# Altium schematic symbol library SYM-Connector.SchLib: 117 symbols (part 3 of 4)
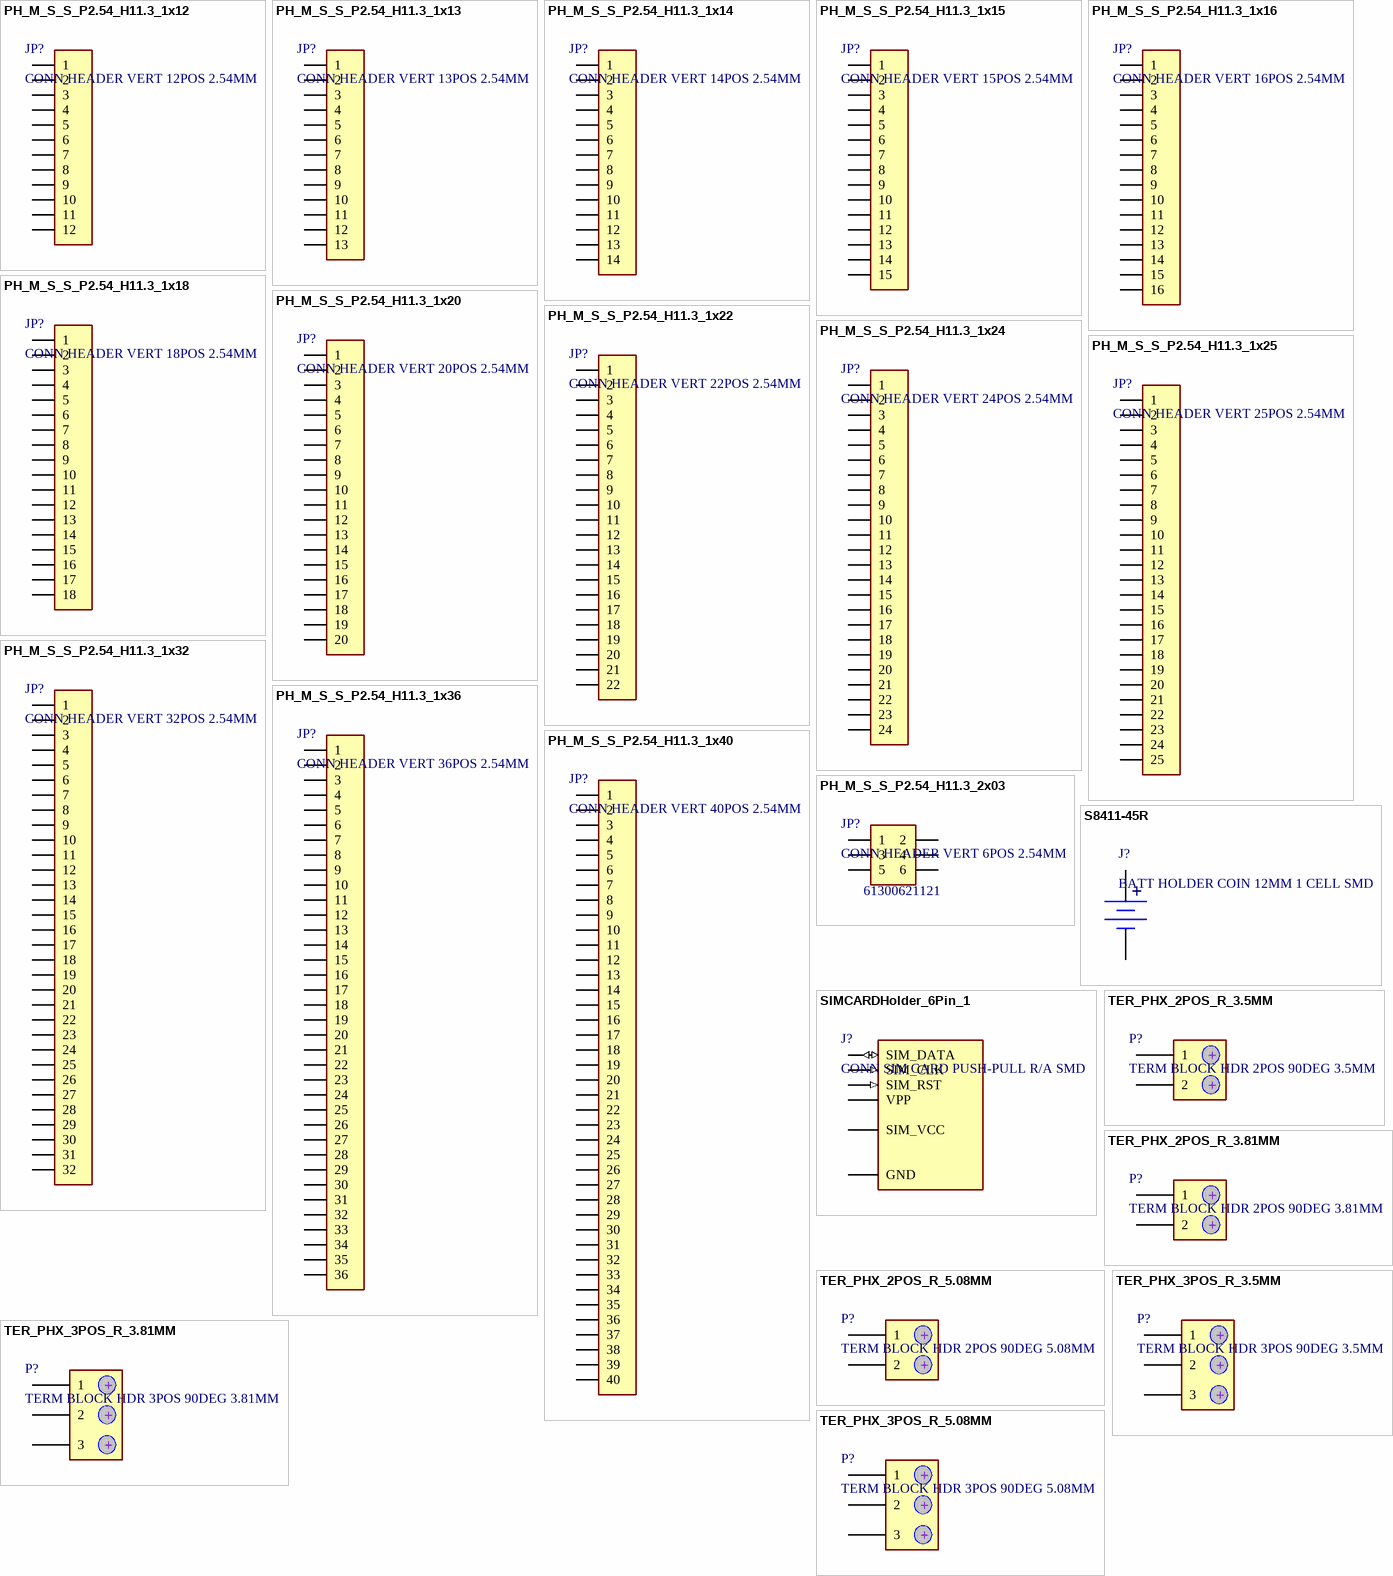
[diagram p6: symbols PH_M_S_S_P2.54_H11.3_1x12 to TER_PHX_3POS_R_5.08MM]

## TER_PHX_2POS_R_5.08MM
designator P?, comment TERM BLOCK HDR 2POS 90DEG 5.08MM
Conn Shrouded Header HDR 2 POS 5.08mm Solder RA Thru-Hole; Manufacturer: Phoenix Contact; Manufacturer Part Number: MSTB2.5/2-G-5.08; Max Current Rating: 12A; Gender: Male; Supplier 1: Digi-Key; RoHS: Yes; Category: Terminal Blocks; Stock 1: 401; Pricing 1: 1=0/67000, 10=0/64400, 50=0/61600, 100=0/59920, 250=0/56000, 500=0/51520, 1000=0/47600, 2500=0/45360, 5000=0/43120 (USD); Housing Color: Green; Housing Material: Polybutylene; Contact Plating: Tin; Orientation: Right Angle; Termination: Solder; Number of Rows: 1; Length: 10.16mm; Pitch: 5.08mm; Depth: 12mm; ComponentLink1URL: http://components.arrow.com/part/dataview/0323_01938059?src-supplier=Arrow+Europe; ComponentLink1Description: http://components.arrow.com/part/dataview/0323_01938059?src-supplier=Arrow+Europe; Supplier Part Number 1: 277-1095-ND
footprint TER-Phoenix-R-02
pins: 1, 2
text: +

## TER_PHX_3POS_R_3.5MM
designator P?, comment TERM BLOCK HDR 3POS 90DEG 3.5MM
Pluggable Terminal Blocks 3 Pos 3.5mm pitch Th rough Hole Header; Manufacturer: Phoenix Contact; Manufacturer Part Number: 1844223; Current Rating: 8A; Voltage Rating: 160V; Number of Positions: 3; Number of Levels: 1; Voltage: 300V; Gender: Male; Voltage Rating (DC): 250V; Connector Type: Plug; Approvals: UL,CSA; Supplier: Digi-Key; Supplier Part Number: 277-2415-ND; RoHS: Yes; Category: Terminal Blocks; Stock: 9881; Pricing: 1=1.70000, 10=1.49500, 50=1.43000, 100=1.39100, 250=1.30000, 500=1.19600, 1000=1.10500, 2500=1.05300, 5000=0.98800 (USD); Mounting Technology: Through Hole; Contact Plating: Tin; Weight: 4oz; Color: Green; Housing Color: Green; Material: PBT; Housing Material: Polybutylene; Contact Material: Tin; Package Quantity: 50; Max Current Rating: 8A; Packaging: Bulk; Number of Rows: 1; Termination: Solder; Number of Positions Per Level: 3; Current: 8A; Number of Contacts: 3; Orientation: Right Angle; Series: MC; Number of Poles: 3; Length: 11.9mm; Width: 9.2mm; Height: 10.65mm; Pitch: 3.5mm; Depth: 9.2mm; Lead Free: Lead Free; Flammability Rating: UL94 V-0; RoHS Compliant: Yes; ComponentLink1URL: https://datasheet.ciiva.com/16097/1844223-16097202.pdf?src-supplier=Onlinecomponents.com; ComponentLink1Description: https://datasheet.ciiva.com/16097/1844223-16097202.pdf?src-supplier=Onlinecomponents.com; ComponentLink2URL: https://datasheet.ciiva.com/15197/getdatasheetpartid-211520-15197573.pdf?src-supplier=Verical; ComponentLink2Description: https://datasheet.ciiva.com/15197/getdatasheetpartid-211520-15197573.pdf?src-supplier=Verical; ComponentLink3URL: https://datasheet.ciiva.com/796/1844223-796692.pdf?src-supplier=Digi-Key; ComponentLink3Description: https://datasheet.ciiva.com/796/1844223-796692.pdf?src-supplier=Digi-Key; ComponentLink4URL: https://datasheet.ciiva.com/29211/740389-da-01-de-leiterplattenstecker-mc-1-5-3-g-3-5-29211988.pdf?src-supplier=Conrad; ComponentLink4Description: https://datasheet.ciiva.com/29211/740389-da-01-de-leiterplattenstecker-mc-1-5-3-g-3-5-29211988.pdf?src-supplier=Conrad
footprint TER-Phoenix-3.5mm-R-03
pins: 1, 2, 3
text: +

## TER_PHX_3POS_R_3.81MM
designator P?, comment TERM BLOCK HDR 3POS 90DEG 3.81MM
Pluggable Terminal Blocks BCH-381H- 3 GN 3.81 MM HEADER; Manufacturer: Phoenix Contact; Manufacturer Part Number: 5444275; Current Rating: 8A; Voltage Rating: 160V; Number of Positions: 3; Number of Levels: 1; Voltage: 300V; Pitch: 0.15inch; Supplier: Digi-Key; Supplier Part Number: 277-11314-ND; RoHS: Yes; Category: Terminal Blocks; Pricing: 1=1.54000, 10=1.29800, 50=1.26260, 100=1.18000, 250=1.08560, 500=1.00300, 1000=0.95581, 2500=0.89680, 5000=0.88350 (USD); Mounting Technology: Through Hole; Contact Plating: Tin; Color: Green; Housing Material: Polyamide; Package Quantity: 100; Termination: Solder; Packaging: Bulk; Number of Positions Per Level: 3; Current: 8A; Length: 9.2mm; Flammability Rating: UL94 V-0; RoHS Compliant: Yes; ComponentLink1URL: http://media.digikey.com/pdf/Data%20Sheets/Phoenix%20Contact%20PDFs/5444275.pdf?src-supplier=Digi-Key; ComponentLink1Description: http://media.digikey.com/pdf/Data%20Sheets/Phoenix%20Contact%20PDFs/5444275.pdf?src-supplier=Digi-Key; ComponentLink2URL: https://media.digikey.com/pdf/Data%20Sheets/Phoenix%20Contact%20PDFs/5444275.pdf?src-supplier=Digi-Key; ComponentLink2Description: https://media.digikey.com/pdf/Data%20Sheets/Phoenix%20Contact%20PDFs/5444275.pdf?src-supplier=Digi-Key
footprint TER-Phoenix-3.81mm-R-03
pins: 1, 2, 3
text: +

## TER_PHX_3POS_R_5.08MM
designator P?, comment TERM BLOCK HDR 3POS 90DEG 5.08MM
3 Position Terminal Block Header 2 Side Shrouded Right Angle 5.08mm Through Hole; Manufacturer: Phoenix Contact; Manufacturer Part Number: 1759020; Max Current Rating: 12A; Voltage Rating: 250V; Number of Poles: 3; Number of Levels: 1; Current: 15A; Voltage: 300V; Voltage Rating (DC): 320V; Pin Diameter: 1mm; Approvals: UL,CSA,VDE,EN; Supplier 1: Digi-Key; RoHS: Yes; Category: Terminal Blocks; Stock 1: 1808; Pricing 1: 1=1/08000, 10=1/03500, 50=0/99000, 100=0/96300, 250=0/90000, 500=0/82800, 1000=0/76500, 2500=0/72900, 5000=0/69300 (USD); Mount: Through Hole; Color: Grey,Green; Contact Plating: Tin; Weight: 5.361642oz; Housing Color: Green; Housing Material: Polybutylene; Contact Material: Copper; Current Rating: 12A; Package Quantity: 50; Packaging: Bulk; Number of Rows: 1; Number of Positions: 3; Termination: Solder; Number of Positions Per Level: 3; Number of Contacts: 3; Orientation: Right Angle; Series: MSTB; Length: 15.24mm; Width: 15.24mm; Height: 12.1mm; Pitch: 5.08mm; Depth: 12mm; RoHS Compliant: Yes; Lead Free: Lead Free; Flammability Rating: UL94 V-0; ComponentLink1URL: https://datasheet.ciiva.com/16096/1759020-16096520.pdf?src-supplier=Onlinecomponents.com; ComponentLink1Description: https://datasheet.ciiva.com/16096/1759020-16096520.pdf?src-supplier=Onlinecomponents.com; ComponentLink2URL: https://datasheet.ciiva.com/15197/getdatasheetpartid-323138-15197355.pdf?src-supplier=Verical; ComponentLink2Description: https://datasheet.ciiva.com/15197/getdatasheetpartid-323138-15197355.pdf?src-supplier=Verical; ComponentLink3URL: https://datasheet.ciiva.com/11746/0900766b800b6dad-11746922.pdf?src-supplier=RSComponents; ComponentLink3Description: https://datasheet.ciiva.com/11746/0900766b800b6dad-11746922.pdf?src-supplier=RSComponents; ComponentLink4URL: https://datasheet.ciiva.com/795/1759020-795418.pdf?src-supplier=Digi-Key; ComponentLink4Description: https://datasheet.ciiva.com/795/1759020-795418.pdf?src-supplier=Digi-Key; ComponentLink5URL: https://datasheet.ciiva.com/29212/743629-da-01-de-grundgehaeuse-mstb-2-5-3-g-5-08-29212194.pdf?src-supplier=Conrad; ComponentLink5Description: https://datasheet.ciiva.com/29212/743629-da-01-de-grundgehaeuse-mstb-2-5-3-g-5-08-29212194.pdf?src-supplier=Conrad; Supplier Part Number 1: 277-1096-ND
footprint TER-Phoenix-R-03
pins: 1, 2, 3
text: +

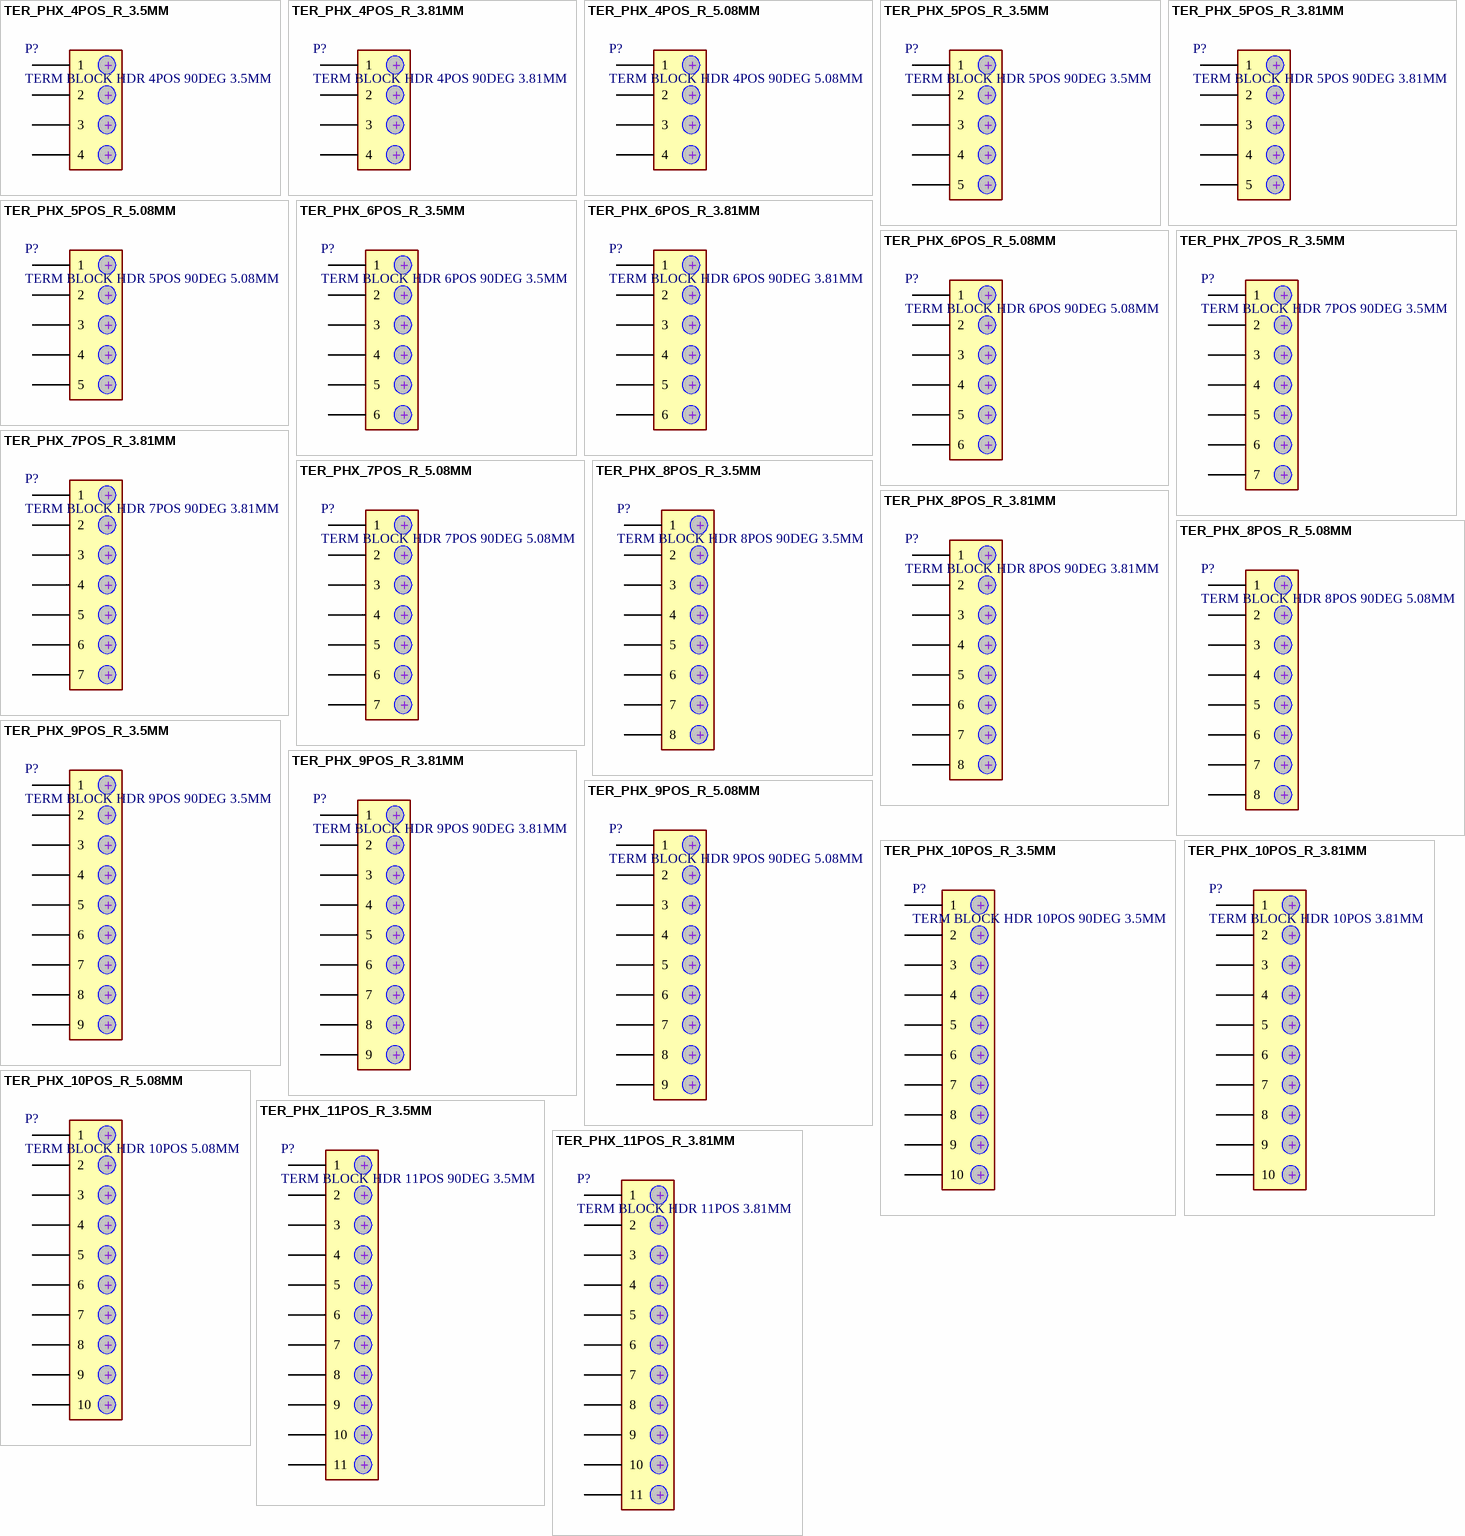
[diagram p3: symbols TER_PHX_4POS_R_3.5MM to TER_PHX_11POS_R_3.81MM]

## TER_PHX_4POS_R_3.5MM
designator P?, comment TERM BLOCK HDR 4POS 90DEG 3.5MM
Pluggable Terminal Blocks 4 Pos 3.5mm pitch Th rough Hole Header; Manufacturer: Phoenix Contact; Manufacturer Part Number: 1844236; Current Rating: 8A; Voltage Rating: 160V; Number of Poles: 4; Number of Levels: 1; Voltage: 300V; Gender: Male; Voltage Rating (DC): 640mV; Connector Type: Plug; Approvals: UL,CSA; Supplier: Digi-Key; Supplier Part Number: 277-2419-ND; RoHS: Yes; Category: Terminal Blocks; Stock: 4114; Pricing: 1=2.25000, 10=1.97800, 50=1.89200, 100=1.84040, 250=1.72000, 500=1.58240, 1000=1.46200, 2500=1.39320, 5000=1.30720 (USD); Mounting Technology: Through Hole; Contact Plating: Tin; Weight: 4oz; Color: Green; Housing Color: Green; Material: PBT; Housing Material: Polybutylene; Contact Material: Tin; Package Quantity: 50; Max Current Rating: 8A; Number of Rows: 1; Packaging: Bulk; Number of Positions: 4; Termination: Solder; Number of Positions Per Level: 4; Current: 8A; Number of Contacts: 4; Orientation: Right Angle; Series: MC; Length: 15.4mm; Width: 9.2mm; Height: 10.65mm; Pitch: 3.5mm; Depth: 7.25mm; Lead Free: Lead Free; Flammability Rating: UL94 V-0; RoHS Compliant: Yes; ComponentLink1URL: https://datasheet.ciiva.com/16097/1844236-16097205.pdf?src-supplier=Onlinecomponents.com; ComponentLink1Description: https://datasheet.ciiva.com/16097/1844236-16097205.pdf?src-supplier=Onlinecomponents.com; ComponentLink2URL: https://datasheet.ciiva.com/15197/getdatasheetpartid-176360-15197574.pdf?src-supplier=Verical; ComponentLink2Description: https://datasheet.ciiva.com/15197/getdatasheetpartid-176360-15197574.pdf?src-supplier=Verical; ComponentLink3URL: https://datasheet.ciiva.com/796/1844236-796711.pdf?src-supplier=Digi-Key; ComponentLink3Description: https://datasheet.ciiva.com/796/1844236-796711.pdf?src-supplier=Digi-Key; ComponentLink4URL: https://datasheet.ciiva.com/29211/740407-da-01-de-leiterplattenstecker-mc1-5-4-g-3-5-29211995.pdf?src-supplier=Conrad; ComponentLink4Description: https://datasheet.ciiva.com/29211/740407-da-01-de-leiterplattenstecker-mc1-5-4-g-3-5-29211995.pdf?src-supplier=Conrad
footprint TER-Phoenix-3.5mm-R-04
pins: 1, 2, 3, 4
text: +

## TER_PHX_4POS_R_3.81MM
designator P?, comment TERM BLOCK HDR 4POS 90DEG 3.81MM
Pluggable Terminal Blocks BCH-381H- 4 GN 3.81 MM HEADER; Manufacturer: Phoenix Contact; Manufacturer Part Number: 5444288; Max Current Rating: 8A; Voltage Rating: 160V; Number of Positions: 4; Number of Levels: 1; Voltage: 300V; Supplier: Digi-Key; Supplier Part Number: 277-11315-ND; RoHS: Yes; Category: Terminal Blocks; Pricing: 1=2.07000, 10=1.73800, 50=1.69060, 100=1.58000, 250=1.45360, 500=1.34300, 1000=1.27980, 2500=1.20080, 5000=1.18275 (USD); Mounting Technology: Through Hole; Color: Green; Contact Plating: Tin; Housing Material: Polyamide; Package Quantity: 100; Current Rating: 8A; Termination: Solder; Packaging: Bulk; Number of Positions Per Level: 4; Number of Contacts: 4; Orientation: Right Angle; Current: 8A; Length: 9.2mm; Pitch: 3.81mm; Flammability Rating: UL94 V-0; RoHS Compliant: Yes; ComponentLink1URL: https://datasheet.ciiva.com/24428/itemdetail-5444288-24428938.pdf?src-supplier=Onlinecomponents.com; ComponentLink1Description: https://datasheet.ciiva.com/24428/itemdetail-5444288-24428938.pdf?src-supplier=Onlinecomponents.com
footprint TER-Phoenix-3.81mm-R-04
pins: 1, 2, 3, 4
text: +

## TER_PHX_4POS_R_5.08MM
designator P?, comment TERM BLOCK HDR 4POS 90DEG 5.08MM
Pluggable Terminal Blocks 4 Pos 5.08mm pitch T hrough Hole Header; Manufacturer: Phoenix Contact; Manufacturer Part Number: 1759033; Max Current Rating: 12A; Number of Poles: 4; Voltage Rating: 250V; Number of Levels: 1; Current: 15A; Voltage: 300V; Voltage Rating (DC): 320V; Pin Diameter: 1mm; Approvals: UL,CSA,VDE,EN; Supplier 1: Digi-Key; RoHS: Yes; Category: Terminal Blocks; Stock 1: 1638; Pricing 1: 1=1/56000, 10=1/49500, 50=1/43000, 100=1/39100, 250=1/30000, 500=1/19600, 1000=1/10500, 2500=1/05300, 5000=1/00100 (USD); Mount: Through Hole; Color: Green,Grey; Contact Plating: Tin; Weight: 5.361642oz; Contact Material: Tin,Copper; Housing Color: Green; Housing Material: Polybutylene; Package Quantity: 50; Packaging: Bulk; Number of Rows: 1; Current Rating: 12A; Number of Positions Per Level: 4; Termination: Solder; Number of Positions: 4; Number of Contacts: 4; Orientation: Right Angle; Series: MSTB; Length: 20.32mm; Width: 20.32mm; Height: 12.1mm; Pitch: 5.08mm; Depth: 12mm; Lead Free: Lead Free; Flammability Rating: UL94 V-0; RoHS Compliant: Yes; ComponentLink1URL: https://datasheet.ciiva.com/16096/1759033-16096522.pdf?src-supplier=Onlinecomponents.com; ComponentLink1Description: https://datasheet.ciiva.com/16096/1759033-16096522.pdf?src-supplier=Onlinecomponents.com; ComponentLink2URL: https://datasheet.ciiva.com/15216/getdatasheetpartid-198286-15216429.pdf?src-supplier=Verical; ComponentLink2Description: https://datasheet.ciiva.com/15216/getdatasheetpartid-198286-15216429.pdf?src-supplier=Verical; ComponentLink3URL: https://datasheet.ciiva.com/796/1759033-796689.pdf?src-supplier=Digi-Key; ComponentLink3Description: https://datasheet.ciiva.com/796/1759033-796689.pdf?src-supplier=Digi-Key; ComponentLink4URL: https://datasheet.ciiva.com/29212/743643-da-01-de-grundgehaeuse-mstb-2-5-4-g-5-08-29212200.pdf?src-supplier=Conrad; ComponentLink4Description: https://datasheet.ciiva.com/29212/743643-da-01-de-grundgehaeuse-mstb-2-5-4-g-5-08-29212200.pdf?src-supplier=Conrad; ComponentLink5URL: https://datasheet.ciiva.com/16939/70054620-16939382.pdf?src-supplier=Allied+Electronics; ComponentLink5Description: https://datasheet.ciiva.com/16939/70054620-16939382.pdf?src-supplier=Allied+Electronics; Supplier Part Number 1: 277-1097-ND
footprint TER-Phoenix-R-04
pins: 1, 2, 3, 4
text: +

## TER_PHX_5POS_R_3.5MM
designator P?, comment TERM BLOCK HDR 5POS 90DEG 3.5MM
Conn Shrouded Header (4 Sides) HDR 5 POS 3.5mm Solder RA Side Entry Thru-Hole Cardboard; Manufacturer: Phoenix Contact; Manufacturer Part Number: 1844249; Number of Poles: 5; Max Current Rating: 8A; Voltage Rating: 160V; Number of Levels: 1; Voltage: 300V; Gender: Male; Voltage Rating (DC): 640mV; Connector Type: Plug; Approvals: UL,CSA; Supplier: Digi-Key; Supplier Part Number: 277-5789-ND; RoHS: Yes; Category: Terminal Blocks; Pricing: 1=2.81000, 10=2.47300, 50=2.36500, 100=2.30050, 250=2.15000, 500=1.97802, 1000=1.82750, 2500=1.74150, 5000=1.63401 (USD); Mounting Technology: Through Hole; Color: Green; Contact Plating: Tin; Weight: 4oz; Housing Color: Green; Material: PBT; Housing Material: Polybutylene; Contact Material: Tin; Packaging: Bulk; Number of Rows: 1; Current Rating: 8A; Package Quantity: 50; Number of Positions Per Level: 5; Termination: Solder; Current: 8A; Number of Positions: 5; Number of Contacts: 5; Orientation: Right Angle; Series: MC; Length: 18.9mm; Width: 9.2mm; Height: 10.65mm; Pitch: 3.5mm; Depth: 9.2mm; Lead Free: Lead Free; Flammability Rating: UL94 V-0; RoHS Compliant: Yes; ComponentLink1URL: https://datasheet.ciiva.com/16097/1844249-16097207.pdf?src-supplier=Onlinecomponents.com; ComponentLink1Description: https://datasheet.ciiva.com/16097/1844249-16097207.pdf?src-supplier=Onlinecomponents.com; ComponentLink2URL: https://datasheet.ciiva.com/15216/getdatasheetpartid-176383-15216455.pdf?src-supplier=Verical; ComponentLink2Description: https://datasheet.ciiva.com/15216/getdatasheetpartid-176383-15216455.pdf?src-supplier=Verical; ComponentLink3URL: https://datasheet.ciiva.com/29211/740424-da-01-de-leiterplattenstecker-mc-1-5-5-g-3-5-29211998.pdf?src-supplier=Conrad; ComponentLink3Description: https://datasheet.ciiva.com/29211/740424-da-01-de-leiterplattenstecker-mc-1-5-5-g-3-5-29211998.pdf?src-supplier=Conrad
footprint TER-Phoenix-3.5mm-R-05
pins: 1, 2, 3, 4, 5
text: +

## TER_PHX_5POS_R_3.81MM
designator P?, comment TERM BLOCK HDR 5POS 90DEG 3.81MM
Pluggable Terminal Blocks BCH-381H- 5 GN 3.81 MM HEADER; Manufacturer: Phoenix Contact; Manufacturer Part Number: 5444291; Current Rating: 8A; Voltage Rating: 160V; Number of Positions: 5; Number of Levels: 1; Voltage: 300V; Pitch: 0.15inch; Supplier: Digi-Key; Supplier Part Number: 277-11316-ND; RoHS: Yes; Category: Terminal Blocks; Stock: 240; Pricing: 1=2.51000, 10=2.11200, 50=2.05440, 100=1.92000, 250=1.76644, 500=1.63200, 1000=1.55521, 2500=1.45920, 5000=1.43925 (USD); Mounting Technology: Through Hole; Contact Plating: Tin; Color: Green; Housing Material: Polyamide; Package Quantity: 100; Termination: Solder; Packaging: Bulk; Number of Positions Per Level: 5; Current: 8A; Length: 9.2mm; Flammability Rating: UL94 V-0; RoHS Compliant: Yes; ComponentLink1URL: https://datasheet.ciiva.com/29682/5444291-29682326.pdf?src-supplier=Digi-Key; ComponentLink1Description: https://datasheet.ciiva.com/29682/5444291-29682326.pdf?src-supplier=Digi-Key
footprint TER-Phoenix-3.81mm-R-05
pins: 1, 2, 3, 4, 5
text: +

## TER_PHX_5POS_R_5.08MM
designator P?, comment TERM BLOCK HDR 5POS 90DEG 5.08MM
Conn Shrouded Header HDR 5 POS 5.08mm Solder RA Thru-Hole; Manufacturer: Phoenix Contact; Manufacturer Part Number: MSTB2.5/5-G-5.08; Max Current Rating: 12A; Gender: Male; Supplier 1: Digi-Key; RoHS: Yes; Category: Uncategorized; Pricing 1: 1=1/96000, 10=1/87500, 50=1/79300, 100=1/74410, 250=1/63000, 500=1/49960, 1000=1/38550, 2500=1/32030, 5000=1/25510 (USD); Contact Plating: Tin; Housing Material: Polybutylene; Housing Color: Green; Number of Rows: 1; Termination: Solder; Orientation: Right Angle; Length: 25.4mm; Pitch: 5.08mm; Depth: 12mm; Supplier Part Number 1: 277-1098-ND
footprint TER-Phoenix-R-05
pins: 1, 2, 3, 4, 5
text: +

## TER_PHX_6POS_R_3.5MM
designator P?, comment TERM BLOCK HDR 6POS 90DEG 3.5MM
Header; 8 A; 160 V; 3.5; 6; Soldering; 1.2 mm; 2.5 kV; 160/250 V; PBT; Manufacturer: Phoenix Contact; Manufacturer Part Number: 1844252; Max Current Rating: 8A; Voltage Rating: 160V; Number of Positions: 6; Number of Levels: 1; Voltage: 300V; Gender: Male; Connector Type: Plug; Voltage Rating (DC): 640mV; Approvals: UL,CSA; Supplier: Digi-Key; Supplier Part Number: 277-2427-ND; RoHS: Yes; Category: Terminal Blocks; Stock: 1328; Pricing: 1=3.41000, 10=2.87100, 50=2.79260, 100=2.61000, 250=2.40120, 500=2.21850, 1000=2.11411, 2500=1.98360, 5000=1.88375 (USD); Mounting Technology: Through Hole; Color: Green; Contact Plating: Tin; Weight: 4oz; Housing Color: Green; Material: PBT; Housing Material: Polybutylene; Contact Material: Tin; Number of Rows: 1; Current Rating: 8A; Package Quantity: 50; Packaging: Bulk; Termination: Solder; Number of Positions Per Level: 6; Current: 8A; Number of Contacts: 6; Orientation: Right Angle; Series: MC; Number of Poles: 6; Length: 22.4mm; Width: 22.4mm; Height: 10.65mm; Pitch: 3.5mm; Depth: 9.2mm; Flammability Rating: UL94 V-0; RoHS Compliant: Yes; Lead Free: Lead Free; ComponentLink1URL: https://datasheet.ciiva.com/16097/1844252-16097209.pdf?src-supplier=Onlinecomponents.com; ComponentLink1Description: https://datasheet.ciiva.com/16097/1844252-16097209.pdf?src-supplier=Onlinecomponents.com; ComponentLink2URL: https://datasheet.ciiva.com/15197/getdatasheetpartid-251426-15197575.pdf?src-supplier=Verical; ComponentLink2Description: https://datasheet.ciiva.com/15197/getdatasheetpartid-251426-15197575.pdf?src-supplier=Verical; ComponentLink3URL: https://datasheet.ciiva.com/796/1844252-796762.pdf?src-supplier=Digi-Key; ComponentLink3Description: https://datasheet.ciiva.com/796/1844252-796762.pdf?src-supplier=Digi-Key; ComponentLink4URL: https://datasheet.ciiva.com/29212/740440-da-01-de-leiterplattenstecker-mc1-5-6-g-3-5-29212003.pdf?src-supplier=Conrad; ComponentLink4Description: https://datasheet.ciiva.com/29212/740440-da-01-de-leiterplattenstecker-mc1-5-6-g-3-5-29212003.pdf?src-supplier=Conrad; ComponentLink5URL: https://datasheet.ciiva.com/16939/70054522-16939190.pdf?src-supplier=Allied+Electronics; ComponentLink5Description: https://datasheet.ciiva.com/16939/70054522-16939190.pdf?src-supplier=Allied+Electronics; ComponentLink6URL: https://datasheet.ciiva.com/33106/1844252-33106348.pdf?src-supplier=Today+Components; ComponentLink6Description: https://datasheet.ciiva.com/33106/1844252-33106348.pdf?src-supplier=Today+Components
footprint TER-Phoenix-3.5mm-R-06
pins: 1, 2, 3, 4, 5, 6
text: +

## TER_PHX_6POS_R_3.81MM
designator P?, comment TERM BLOCK HDR 6POS 90DEG 3.81MM
Pluggable Terminal Blocks BCH-381H- 6 GN 3.81 MM HEADER; Manufacturer: Phoenix Contact; Manufacturer Part Number: 5444301; Number of Positions: 6; Number of Levels: 1; Current: 8A; Voltage: 300V; Pitch: 0.15inch; Supplier: Digi-Key; Supplier Part Number: 277-11317-ND; RoHS: Yes; Category: Terminal Blocks; Stock: 1; Pricing: 1=3.05000, 10=2.56300, 50=2.49320, 100=2.33000, 250=2.14360, 500=1.98050, 1000=1.88731, 2500=1.77080, 5000=1.74562 (USD); Mounting Technology: Through Hole; Pins: 6; Color: Green; Contact Plating: Tin; Package Quantity: 100; Packaging: Bulk; Number of Positions Per Level: 6; Termination: Solder; RoHS Compliant: Yes; ComponentLink1URL: https://datasheet.ciiva.com/29682/5444301-29682154.pdf?src-supplier=Digi-Key; ComponentLink1Description: https://datasheet.ciiva.com/29682/5444301-29682154.pdf?src-supplier=Digi-Key
footprint TER-Phoenix-3.81mm-R-06
pins: 1, 2, 3, 4, 5, 6
text: +

## TER_PHX_6POS_R_5.08MM
designator P?, comment TERM BLOCK HDR 6POS 90DEG 5.08MM
Terminal Block, Header, 6Pos, R/a, Th Rohs Compliant: Yes; Manufacturer: Phoenix Contact; Manufacturer Part Number: 1759059; Max Current Rating: 12A; Voltage Rating: 250V; Number of Positions Per Level: 6; Number of Levels: 1; Current: 15A; Voltage: 300V; Voltage Rating (DC): 320V; Pin Diameter: 1mm; Approvals: UL,CSA,VDE,EN; Supplier 1: Digi-Key; RoHS: Yes; Category: Terminal Blocks; Pricing 1: 1=2/15000, 10=2/05700, 50=2/00100, 100=1/87000, 250=1/72040, 500=1/58950, 1000=1/51470, 2500=1/43990 (USD); Mount: Through Hole; Color: Green,Grey; Contact Plating: Tin; Weight: 5.361642oz; Contact Material: Tin,Copper; Housing Material: Polybutylene; Housing Color: Green; Number of Rows: 1; Package Quantity: 50; Packaging: Bulk; Current Rating: 12A; Termination: Solder; Number of Positions: 6; Number of Contacts: 6; Series: MSTB; Number of Poles: 6; Orientation: Right Angle; Length: 30.48mm; Width: 30.48mm; Height: 12.1mm; Pitch: 5.08mm; Depth: 12mm; Flammability Rating: UL94 V-0; RoHS Compliant: Yes; Lead Free: Lead Free; ComponentLink1URL: https://datasheet.ciiva.com/16096/1759059-16096526.pdf?src-supplier=Onlinecomponents.com; ComponentLink1Description: https://datasheet.ciiva.com/16096/1759059-16096526.pdf?src-supplier=Onlinecomponents.com; ComponentLink2URL: https://datasheet.ciiva.com/796/1759059-796717.pdf?src-supplier=Digi-Key; ComponentLink2Description: https://datasheet.ciiva.com/796/1759059-796717.pdf?src-supplier=Digi-Key; ComponentLink3URL: https://datasheet.ciiva.com/29212/743669-da-01-de-grundgehaeuse-mstb-2-5-6-g-5-08-29212222.pdf?src-supplier=Conrad; ComponentLink3Description: https://datasheet.ciiva.com/29212/743669-da-01-de-grundgehaeuse-mstb-2-5-6-g-5-08-29212222.pdf?src-supplier=Conrad; Supplier Part Number 1: 277-1099-ND
footprint TER-Phoenix-R-06
pins: 1, 2, 3, 4, 5, 6
text: +

## TER_PHX_7POS_R_3.5MM
designator P?, comment TERM BLOCK HDR 7POS 90DEG 3.5MM
Pluggable Terminal Blocks 7 Pos 3.5mm pitch Th rough Hole Header; Manufacturer: Phoenix Contact; Manufacturer Part Number: 1844265; Number of Poles: 7; Max Current Rating: 8A; Voltage Rating: 160V; Number of Levels: 1; Voltage: 300V; Gender: Male; Voltage Rating (DC): 640mV; Connector Type: Plug; Approvals: UL,CSA; Supplier: Digi-Key; Supplier Part Number: 277-5892-ND; RoHS: Yes; Category: Terminal Blocks; Stock: 405; Pricing: 1=3.93000, 10=3.31100, 50=3.22080, 100=3.01000, 250=2.76920, 500=2.55850, 1000=2.43810, 2500=2.28761 (USD); Mounting Technology: Through Hole; Contact Plating: Tin; Color: Green; Weight: 4oz; Housing Color: Green; Material: PBT; Housing Material: Polybutylene; Contact Material: Tin; Packaging: Bulk; Package Quantity: 50; Number of Rows: 1; Current Rating: 8A; Number of Positions Per Level: 7; Termination: Solder; Current: 8A; Number of Positions: 7; Number of Contacts: 7; Orientation: Right Angle; Series: MC; Length: 25.9mm; Width: 9.2mm; Height: 10.65mm; Pitch: 3.5mm; Depth: 9.2mm; RoHS Compliant: Yes; Lead Free: Lead Free; Flammability Rating: UL94 V-0; ComponentLink1URL: https://datasheet.ciiva.com/16097/1844265-16097211.pdf?src-supplier=Onlinecomponents.com; ComponentLink1Description: https://datasheet.ciiva.com/16097/1844265-16097211.pdf?src-supplier=Onlinecomponents.com; ComponentLink2URL: https://datasheet.ciiva.com/15197/getdatasheetpartid-253552-15197576.pdf?src-supplier=Verical; ComponentLink2Description: https://datasheet.ciiva.com/15197/getdatasheetpartid-253552-15197576.pdf?src-supplier=Verical; ComponentLink3URL: https://datasheet.ciiva.com/29212/788539-da-01-en-grundgehaeuse-1844265-100-st-29212955.pdf?src-supplier=Conrad; ComponentLink3Description: https://datasheet.ciiva.com/29212/788539-da-01-en-grundgehaeuse-1844265-100-st-29212955.pdf?src-supplier=Conrad
footprint TER-Phoenix-3.5mm-R-07
pins: 1, 2, 3, 4, 5, 6, 7
text: +

## TER_PHX_7POS_R_3.81MM
designator P?, comment TERM BLOCK HDR 7POS 90DEG 3.81MM
Pluggable Terminal Blocks BCH-381H- 7 GN 3.81 MM HEADER; Manufacturer: Phoenix Contact; Manufacturer Part Number: 5444314; Number of Positions: 7; Number of Levels: 1; Current: 8A; Voltage: 300V; Pitch: 0.15inch; Supplier: Digi-Key; Supplier Part Number: 5444314-ND; RoHS: Yes; Category: Terminal Blocks; Pricing: 100=3.59700 (USD); Mounting Technology: Through Hole; Pins: 7; Color: Green; Contact Plating: Tin; Package Quantity: 100; Packaging: Bulk; Number of Positions Per Level: 7; Termination: Solder; ComponentLink1URL: https://media.digikey.com/pdf/Data%20Sheets/Phoenix%20Contact%20PDFs/5444314.pdf?src-supplier=Digi-Key; ComponentLink1Description: https://media.digikey.com/pdf/Data%20Sheets/Phoenix%20Contact%20PDFs/5444314.pdf?src-supplier=Digi-Key
footprint TER-Phoenix-3.81mm-R-07
pins: 1, 2, 3, 4, 5, 6, 7
text: +

## TER_PHX_7POS_R_5.08MM
designator P?, comment TERM BLOCK HDR 7POS 90DEG 5.08MM
Pluggable Terminal Blocks 7 Pos 5.08mm pitch T hrough Hole Header; Manufacturer: Phoenix Contact; Manufacturer Part Number: 1759062; Current Rating: 12A; Voltage Rating: 250V; Number of Positions: 7; Number of Levels: 1; Current: 15A; Voltage: 300V; Pin Diameter: 1mm; Approvals: UL,CSA,VDE,EN; Supplier 1: Digi-Key; RoHS: Yes; Category: Terminal Blocks; Stock 1: 130; Pricing 1: 1=2/56000, 10=2/45300, 50=2/38600, 100=2/23000, 250=2/05160, 500=1/89550, 1000=1/80630, 2500=1/71710 (USD); Mount: Through Hole; Contact Plating: Tin; Color: Grey,Green; Weight: 5.361642oz; Contact Material: Tin,Copper; Housing Color: Green; Housing Material: Polybutylene; Package Quantity: 50; Number of Rows: 1; Packaging: Bulk; Termination: Solder; Number of Positions Per Level: 7; Max Current Rating: 12A; Number of Poles: 7; Number of Contacts: 7; Orientation: Right Angle; Series: MSTB; Length: 35.56mm; Width: 35.56mm; Height: 12.1mm; Pitch: 5.08mm; Depth: 12mm; Lead Free: Lead Free; Flammability Rating: UL94 V-0; RoHS Compliant: Yes; ComponentLink1URL: https://datasheet.ciiva.com/16096/1759062-16096528.pdf?src-supplier=Onlinecomponents.com; ComponentLink1Description: https://datasheet.ciiva.com/16096/1759062-16096528.pdf?src-supplier=Onlinecomponents.com; ComponentLink2URL: https://datasheet.ciiva.com/796/1759062-796735.pdf?src-supplier=Digi-Key; ComponentLink2Description: https://datasheet.ciiva.com/796/1759062-796735.pdf?src-supplier=Digi-Key; ComponentLink3URL: https://datasheet.ciiva.com/29212/743683-da-01-de-grundgehaeuse-mstb-2-5-7-g-5-08-29212230.pdf?src-supplier=Conrad; ComponentLink3Description: https://datasheet.ciiva.com/29212/743683-da-01-de-grundgehaeuse-mstb-2-5-7-g-5-08-29212230.pdf?src-supplier=Conrad; ComponentLink4URL: https://datasheet.ciiva.com/16939/70054623-16939930.pdf?src-supplier=Allied+Electronics; ComponentLink4Description: https://datasheet.ciiva.com/16939/70054623-16939930.pdf?src-supplier=Allied+Electronics; Supplier Part Number 1: 277-1100-ND
footprint TER-Phoenix-R-07
pins: 1, 2, 3, 4, 5, 6, 7
text: +

## TER_PHX_8POS_R_3.5MM
designator P?, comment TERM BLOCK HDR 8POS 90DEG 3.5MM
Conn Shrouded Header (4 Sides) HDR 8 POS 3.5mm Solder RA Side Entry Thru-Hole Cardboard; Manufacturer: Phoenix Contact; Manufacturer Part Number: 1844278; Current Rating: 8A; Voltage Rating: 160V; Voltage: 300V; Number of Positions: 8; Number of Levels: 1; Gender: Male; Connector Type: Plug; Voltage Rating (DC): 640mV; Approvals: UL,CSA; Supplier: Digi-Key; Supplier Part Number: 277-5763-ND; RoHS: Yes; Category: Terminal Blocks; Stock: 2225; Pricing: 1=4.47000, 10=3.76200, 50=3.65940, 100=3.42000, 250=3.14644, 500=2.90700, 1000=2.77022, 2500=2.59921 (USD); Mounting Technology: Through Hole; Color: Green; Contact Plating: Tin; Housing Color: Green; Material: PBT; Housing Material: Polybutylene; Contact Material: Tin; Weight: 4oz; Packaging: Bulk; Package Quantity: 50; Termination: Solder; Current: 8A; Series: MC; Number of Rows: 1; Number of Positions Per Level: 8; Number of Contacts: 8; Number of Poles: 8; Max Current Rating: 8A; Orientation: Right Angle; Length: 29.4mm; Width: 29.4mm; Height: 10.65mm; Pitch: 3.5mm; Depth: 9.2mm; RoHS Compliant: Yes; Lead Free: Lead Free; Flammability Rating: UL94 V-0; ComponentLink1URL: https://datasheet.ciiva.com/16097/1844278-16097213.pdf?src-supplier=Onlinecomponents.com; ComponentLink1Description: https://datasheet.ciiva.com/16097/1844278-16097213.pdf?src-supplier=Onlinecomponents.com; ComponentLink2URL: https://datasheet.ciiva.com/15197/getdatasheetpartid-176407-15197577.pdf?src-supplier=Verical; ComponentLink2Description: https://datasheet.ciiva.com/15197/getdatasheetpartid-176407-15197577.pdf?src-supplier=Verical; ComponentLink3URL: https://datasheet.ciiva.com/6762/1844278-6762895.pdf?src-supplier=Digi-Key; ComponentLink3Description: https://datasheet.ciiva.com/6762/1844278-6762895.pdf?src-supplier=Digi-Key; ComponentLink4URL: https://datasheet.ciiva.com/29212/740477-da-01-de-leiterplattenstecker-mc-1-5-8-g-3-5-29212006.pdf?src-supplier=Conrad; ComponentLink4Description: https://datasheet.ciiva.com/29212/740477-da-01-de-leiterplattenstecker-mc-1-5-8-g-3-5-29212006.pdf?src-supplier=Conrad; ComponentLink5URL: https://datasheet.ciiva.com/16939/70054524-16939787.pdf?src-supplier=Allied+Electronics; ComponentLink5Description: https://datasheet.ciiva.com/16939/70054524-16939787.pdf?src-supplier=Allied+Electronics
footprint TER-Phoenix-3.5mm-R-08
pins: 1, 2, 3, 4, 5, 6, 7, 8
text: +

## TER_PHX_8POS_R_3.81MM
designator P?, comment TERM BLOCK HDR 8POS 90DEG 3.81MM
Pluggable Terminal Blocks BCH-381H- 8 GN 3.81 MM HEADER; Manufacturer: Phoenix Contact; Manufacturer Part Number: 5444327; Number of Positions: 8; Number of Levels: 1; Current: 8A; Voltage: 300V; Pitch: 0.15inch; Supplier: Digi-Key; Supplier Part Number: 277-11318-ND; RoHS: Yes; Category: Terminal Blocks; Pricing: 1=4.02000, 10=3.38800, 50=3.29560, 100=3.08000, 250=2.83360, 500=2.61800, 1000=2.49480, 2500=2.34079 (USD); Mounting Technology: Through Hole; Pins: 8; Color: Green; Contact Plating: Tin; Packaging: Bulk; Number of Positions Per Level: 8; Termination: Solder; Package Quantity: 100; ComponentLink1URL: http://media.digikey.com/pdf/Data%20Sheets/Phoenix%20Contact%20PDFs/5444327.pdf?src-supplier=Digi-Key; ComponentLink1Description: http://media.digikey.com/pdf/Data%20Sheets/Phoenix%20Contact%20PDFs/5444327.pdf?src-supplier=Digi-Key; ComponentLink2URL: https://media.digikey.com/pdf/Data%20Sheets/Phoenix%20Contact%20PDFs/5444327.pdf?src-supplier=Digi-Key; ComponentLink2Description: https://media.digikey.com/pdf/Data%20Sheets/Phoenix%20Contact%20PDFs/5444327.pdf?src-supplier=Digi-Key
footprint TER-Phoenix-3.81mm-R-08
pins: 1, 2, 3, 4, 5, 6, 7, 8
text: +

## TER_PHX_8POS_R_5.08MM
designator P?, comment TERM BLOCK HDR 8POS 90DEG 5.08MM
Connector Male MSTB2.5/8-G-5.08 PHOENIX X8=1 SINGLE COUDE; Manufacturer: Phoenix Contact; Max Current Rating: 12A; Voltage Rating: 250V; Number of Poles: 8; Number of Levels: 1; Current: 15A; Voltage: 300V; Voltage Rating (DC): 320V; Pin Diameter: 1mm; Approvals: UL,CSA,VDE,EN; Supplier 1: Digi-Key; Manufacturer Part Number: MSTB2.5/8-G-5.08; RoHS: Yes; Category: Terminal Blocks; Mount: Through Hole; Color: Green; Contact Plating: Tin; Weight: 5.361642oz; Contact Material: Tin,Copper; Housing Color: Green; Housing Material: Polybutylene; Package Quantity: 50; Packaging: Bulk; Current Rating: 12A; Number of Rows: 1; Number of Positions Per Level: 8; Termination: Solder; Number of Positions: 8; Number of Contacts: 8; Orientation: Right Angle; Series: MSTB; Length: 45.68mm; Width: 40.64mm; Height: 12.1mm; Pitch: 5.08mm; Depth: 12mm; RoHS Compliant: Yes; Lead Free: Lead Free; Flammability Rating: UL94 V-0; ComponentLink1URL: https://datasheet.ciiva.com/16096/1759075-16096489.pdf?src-supplier=Onlinecomponents.com; ComponentLink1Description: https://datasheet.ciiva.com/16096/1759075-16096489.pdf?src-supplier=Onlinecomponents.com; ComponentLink2URL: https://datasheet.ciiva.com/796/1759075-796756.pdf?src-supplier=Digi-Key; ComponentLink2Description: https://datasheet.ciiva.com/796/1759075-796756.pdf?src-supplier=Digi-Key; ComponentLink3URL: https://datasheet.ciiva.com/29212/743696-da-01-de-grundgehaeuse-mstb-2-5-8-g-5-08-29212233.pdf?src-supplier=Conrad; ComponentLink3Description: https://datasheet.ciiva.com/29212/743696-da-01-de-grundgehaeuse-mstb-2-5-8-g-5-08-29212233.pdf?src-supplier=Conrad; ComponentLink4URL: https://datasheet.ciiva.com/16939/70054624-16939397.pdf?src-supplier=Allied+Electronics; ComponentLink4Description: https://datasheet.ciiva.com/16939/70054624-16939397.pdf?src-supplier=Allied+Electronics; Supplier Part Number 1: 277-1101-ND
footprint TER-Phoenix-R-08
pins: 1, 2, 3, 4, 5, 6, 7, 8
text: +

## TER_PHX_9POS_R_3.5MM
designator P?, comment TERM BLOCK HDR 9POS 90DEG 3.5MM
Conn Shrouded Header HDR 9 POS 3.5mm Solder RA Thru-Hole; Manufacturer: Phoenix Contact; Manufacturer Part Number: MC1.5/9-G-3.5; Gender: Male; Max Current Rating: 8A; Supplier: Digi-Key; Supplier Part Number: 277-5944-ND; RoHS: Yes; Category: Uncategorized; Stock: 396; Pricing: 1=5.08000, 10=4.27900, 50=4.16240, 100=3.89000, 250=3.57884, 500=3.30652, 1000=3.15091, 2500=2.95640 (USD); Housing Material: Polybutylene; Housing Color: Green; Contact Plating: Tin; Termination: Solder; Orientation: Right Angle; Number of Rows: 1; Length: 32.9mm; Pitch: 3.5mm; Depth: 9.2mm
footprint TER-Phoenix-3.5mm-R-09
pins: 1, 2, 3, 4, 5, 6, 7, 8, 9
text: +

## TER_PHX_9POS_R_3.81MM
designator P?, comment TERM BLOCK HDR 9POS 90DEG 3.81MM
Pluggable Terminal Blocks BCH-381H- 9 GN 3.81 MM HEADER; Manufacturer: Phoenix Contact; Manufacturer Part Number: 5444330; Number of Positions: 9; Number of Levels: 1; Current: 8A; Voltage: 300V; Pitch: 0.15inch; Supplier: Digi-Key; Supplier Part Number: 5444330-ND; RoHS: Yes; Category: Terminal Blocks; Pricing: 100=4.60510 (USD); Mounting Technology: Through Hole; Pins: 9; Color: Green; Contact Plating: Tin; Package Quantity: 100; Packaging: Bulk; Number of Positions Per Level: 9; Termination: Solder; ComponentLink1URL: https://media.digikey.com/pdf/Data%20Sheets/Phoenix%20Contact%20PDFs/5444330.pdf?src-supplier=Digi-Key; ComponentLink1Description: https://media.digikey.com/pdf/Data%20Sheets/Phoenix%20Contact%20PDFs/5444330.pdf?src-supplier=Digi-Key
footprint TER-Phoenix-3.81mm-R-09
pins: 1, 2, 3, 4, 5, 6, 7, 8, 9
text: +

## TER_PHX_9POS_R_5.08MM
designator P?, comment TERM BLOCK HDR 9POS 90DEG 5.08MM
Pluggable Terminal Blocks 9 Pos 5.08mm pitch T hrough Hole Header; Manufacturer: Phoenix Contact; Manufacturer Part Number: 1759088; Current Rating: 12A; Voltage Rating: 250V; Number of Positions: 9; Number of Levels: 1; Current: 15A; Voltage: 300V; Voltage Rating (DC): 320V; Pin Diameter: 1mm; Approvals: UL,CSA,VDE,EN; Supplier 1: Digi-Key; RoHS: Yes; Category: Terminal Blocks; Stock 1: 115; Pricing 1: 1=3/31000, 10=3/16800, 50=3/08160, 100=2/88000, 250=2/64960, 500=2/44800, 1000=2/33280, 2500=2/21760 (USD); Mount: Through Hole; Color: Grey,Green; Contact Plating: Tin; Weight: 5.361642oz; Housing Color: Green; Housing Material: Polybutylene; Contact Material: Tin,Copper; Package Quantity: 50; Packaging: Bulk; Termination: Solder; Number of Positions Per Level: 9; Number of Contacts: 9; Series: MSTB; Max Current Rating: 12A; Number of Rows: 1; Number of Poles: 9; Orientation: Right Angle; Length: 45.72mm; Width: 45.72mm; Height: 12.1mm; Pitch: 5.08mm; Depth: 12mm; Flammability Rating: UL94 V-0; RoHS Compliant: Yes; Lead Free: Lead Free; ComponentLink1URL: https://datasheet.ciiva.com/16096/1759088-16096492.pdf?src-supplier=Onlinecomponents.com; ComponentLink1Description: https://datasheet.ciiva.com/16096/1759088-16096492.pdf?src-supplier=Onlinecomponents.com; ComponentLink2URL: https://datasheet.ciiva.com/816/1759088-816287.pdf?src-supplier=Digi-Key; ComponentLink2Description: https://datasheet.ciiva.com/816/1759088-816287.pdf?src-supplier=Digi-Key; ComponentLink3URL: https://datasheet.ciiva.com/29212/743709-da-01-de-grundgehaeuse-mstb-2-5-9-g-5-08-29212247.pdf?src-supplier=Conrad; ComponentLink3Description: https://datasheet.ciiva.com/29212/743709-da-01-de-grundgehaeuse-mstb-2-5-9-g-5-08-29212247.pdf?src-supplier=Conrad; Supplier Part Number 1: 277-1102-ND
footprint TER-Phoenix-R-09
pins: 1, 2, 3, 4, 5, 6, 7, 8, 9
text: +

## TER_PHX_10POS_R_3.5MM
designator P?, comment TERM BLOCK HDR 10POS 90DEG 3.5MM
Pluggable Terminal Blocks 10 Pos 3.5mm pitch T hrough Hole Header; Manufacturer: Phoenix Contact; Manufacturer Part Number: 1844294; Current Rating: 8A; Voltage Rating: 160V; Voltage: 300V; Number of Positions: 10; Gender: Male; Connector Type: Plug; Number of Levels: 1; Voltage Rating (DC): 640mV; Approvals: UL,CSA; Supplier: Digi-Key; Supplier Part Number: 277-5813-ND; RoHS: Yes; Category: Terminal Blocks; Stock: 1974; Pricing: 1=5.70000, 10=4.79600, 50=4.66520, 100=4.36000, 250=4.01124, 500=3.70600, 1000=3.53161, 2500=3.31362 (USD); Mounting Technology: Through Hole; Color: Green; Contact Plating: Tin; Housing Color: Green; Material: PBT; Housing Material: Polybutylene; Contact Material: Tin; Weight: 4oz; Number of Rows: 1; Package Quantity: 50; Packaging: Bulk; Termination: Solder; Current: 8A; Number of Contacts: 10; Series: MC; Max Current Rating: 8A; Number of Poles: 10; Number of Positions Per Level: 10; Orientation: Right Angle; Length: 36.4mm; Width: 36.4mm; Height: 11.1mm; Pitch: 3.5mm; Depth: 9.2mm; RoHS Compliant: Yes; Lead Free: Lead Free; Flammability Rating: UL94 V-0; ComponentLink1URL: https://datasheet.ciiva.com/16097/1844294-16097217.pdf?src-supplier=Onlinecomponents.com; ComponentLink1Description: https://datasheet.ciiva.com/16097/1844294-16097217.pdf?src-supplier=Onlinecomponents.com; ComponentLink2URL: https://datasheet.ciiva.com/15197/getdatasheetpartid-225464-15197579.pdf?src-supplier=Verical; ComponentLink2Description: https://datasheet.ciiva.com/15197/getdatasheetpartid-225464-15197579.pdf?src-supplier=Verical; ComponentLink3URL: https://datasheet.ciiva.com/6758/1844294-6758088.pdf?src-supplier=Digi-Key; ComponentLink3Description: https://datasheet.ciiva.com/6758/1844294-6758088.pdf?src-supplier=Digi-Key; ComponentLink4URL: https://datasheet.ciiva.com/29212/740514-da-01-de-leiterplattenstecker-mc-1-5-10-g-3-5-29212064.pdf?src-supplier=Conrad; ComponentLink4Description: https://datasheet.ciiva.com/29212/740514-da-01-de-leiterplattenstecker-mc-1-5-10-g-3-5-29212064.pdf?src-supplier=Conrad
footprint TER-Phoenix-3.5mm-R-10
pins: 1, 2, 3, 4, 5, 6, 7, 8, 9, 10
text: +

## TER_PHX_10POS_R_3.81MM
designator P?, comment TERM BLOCK HDR 10POS 3.81MM
Pluggable Terminal Blocks BCH-381H-10 GN 3.81 MM HEADER; Manufacturer: Phoenix Contact; Manufacturer Part Number: 5444343; Number of Positions: 10; Number of Levels: 1; Current: 8A; Voltage: 300V; Pitch: 0.15inch; Supplier: Digi-Key; Supplier Part Number: 5444343-ND; RoHS: Yes; Category: Terminal Blocks; Pricing: 100=5.10300 (USD); Mounting Technology: Through Hole; Pins: 10; Color: Green; Contact Plating: Tin; Package Quantity: 100; Packaging: Bulk; Number of Positions Per Level: 10; Termination: Solder; ComponentLink1URL: https://media.digikey.com/pdf/Data%20Sheets/Phoenix%20Contact%20PDFs/5444343.pdf?src-supplier=Digi-Key; ComponentLink1Description: https://media.digikey.com/pdf/Data%20Sheets/Phoenix%20Contact%20PDFs/5444343.pdf?src-supplier=Digi-Key
footprint TER-Phoenix-3.81mm-R-10
pins: 1, 2, 3, 4, 5, 6, 7, 8, 9, 10
text: +

## TER_PHX_10POS_R_5.08MM
designator P?, comment TERM BLOCK HDR 10POS 5.08MM
Conn Shrouded Header HDR 10 POS 5.08mm Solder RA Thru-Hole; Manufacturer: Phoenix Contact; Manufacturer Part Number: MSTB2.5/10-G-5.08; Max Current Rating: 12A; Gender: Male; Supplier 1: Digi-Key; RoHS: Yes; Category: Uncategorized; Stock 1: 965; Pricing 1: 1=3/65000, 10=3/48700, 50=3/39180, 100=3/17000, 250=2/91640, 500=2/69450, 1000=2/56770, 2500=2/44090 (USD); Housing Material: Polybutylene; Housing Color: Green; Contact Plating: Tin; Termination: Solder; Orientation: Right Angle; Number of Rows: 1; Length: 50.8mm; Pitch: 5.08mm; Depth: 12mm; Supplier Part Number 1: 277-1103-ND
footprint TER-Phoenix-R-10
pins: 1, 2, 3, 4, 5, 6, 7, 8, 9, 10
text: +

## TER_PHX_11POS_R_3.5MM
designator P?, comment TERM BLOCK HDR 11POS 90DEG 3.5MM
Pluggable Terminal Blocks 11 Pos 3.5mm pitch T hrough Hole Header; Manufacturer: Phoenix Contact; Manufacturer Part Number: 1844304; Current Rating: 8A; Voltage Rating: 160V; Number of Poles: 11; Number of Levels: 1; Voltage: 300V; Gender: Male; Voltage Rating (DC): 640mV; Connector Type: Plug; Approvals: UL,CSA; Supplier: Digi-Key; Supplier Part Number: 277-6863-ND; RoHS: Yes; Category: Terminal Blocks; Stock: 2728; Pricing: 1=6.21000, 10=5.08300, 50=4.75000, 100=4.37000, 250=4.03752, 500=3.84752, 1000=3.61001, 2500=3.43062 (USD); Mounting Technology: Through Hole; Color: Green; Contact Plating: Tin; Weight: 4oz; Housing Color: Green; Material: PBT; Housing Material: Polybutylene; Contact Material: Tin; Packaging: Bulk; Package Quantity: 50; Max Current Rating: 8A; Number of Rows: 1; Number of Positions Per Level: 11; Termination: Solder; Current: 8A; Number of Positions: 11; Number of Contacts: 11; Orientation: Right Angle; Series: MC; Length: 39.9mm; Width: 39.9mm; Height: 11.1mm; Pitch: 3.5mm; Depth: 9.2mm; Lead Free: Lead Free; Flammability Rating: UL94 V-0; RoHS Compliant: Yes; ComponentLink1URL: https://datasheet.ciiva.com/16097/1844304-16097219.pdf?src-supplier=Onlinecomponents.com; ComponentLink1Description: https://datasheet.ciiva.com/16097/1844304-16097219.pdf?src-supplier=Onlinecomponents.com; ComponentLink2URL: https://datasheet.ciiva.com/15197/getdatasheetpartid-242424-15197580.pdf?src-supplier=Verical; ComponentLink2Description: https://datasheet.ciiva.com/15197/getdatasheetpartid-242424-15197580.pdf?src-supplier=Verical; ComponentLink3URL: https://datasheet.ciiva.com/6747/1844304-6747597.pdf?src-supplier=Digi-Key; ComponentLink3Description: https://datasheet.ciiva.com/6747/1844304-6747597.pdf?src-supplier=Digi-Key; ComponentLink4URL: https://datasheet.ciiva.com/29211/717147-da-01-de-grundgehaeuse-1844304-50-st-29211176.pdf?src-supplier=Conrad; ComponentLink4Description: https://datasheet.ciiva.com/29211/717147-da-01-de-grundgehaeuse-1844304-50-st-29211176.pdf?src-supplier=Conrad
footprint TER-Phoenix-3.5mm-R-11
pins: 1, 2, 3, 4, 5, 6, 7, 8, 9, 10, 11
text: +

## TER_PHX_11POS_R_3.81MM
designator P?, comment TERM BLOCK HDR 11POS 3.81MM
Pluggable Terminal Blocks BCH-381H-11 GN 3.81 MM HEADER; Manufacturer: Phoenix Contact; Manufacturer Part Number: 5444356; Current: 8A; Voltage: 300V; Number of Positions: 11; Number of Levels: 1; Pitch: 0.15inch; Supplier: Digi-Key; Supplier Part Number: 5444356-ND; RoHS: Yes; Category: Terminal Blocks; Pricing: 100=5.63810 (USD); Mounting Technology: Through Hole; Pins: 11; Color: Green; Contact Plating: Tin; Package Quantity: 100; Packaging: Bulk; Number of Positions Per Level: 11; Termination: Solder; ComponentLink1URL: https://media.digikey.com/pdf/Data%20Sheets/Phoenix%20Contact%20PDFs/5444356.pdf?src-supplier=Digi-Key; ComponentLink1Description: https://media.digikey.com/pdf/Data%20Sheets/Phoenix%20Contact%20PDFs/5444356.pdf?src-supplier=Digi-Key
footprint TER-Phoenix-3.81mm-R-11
pins: 1, 2, 3, 4, 5, 6, 7, 8, 9, 10, 11
text: +

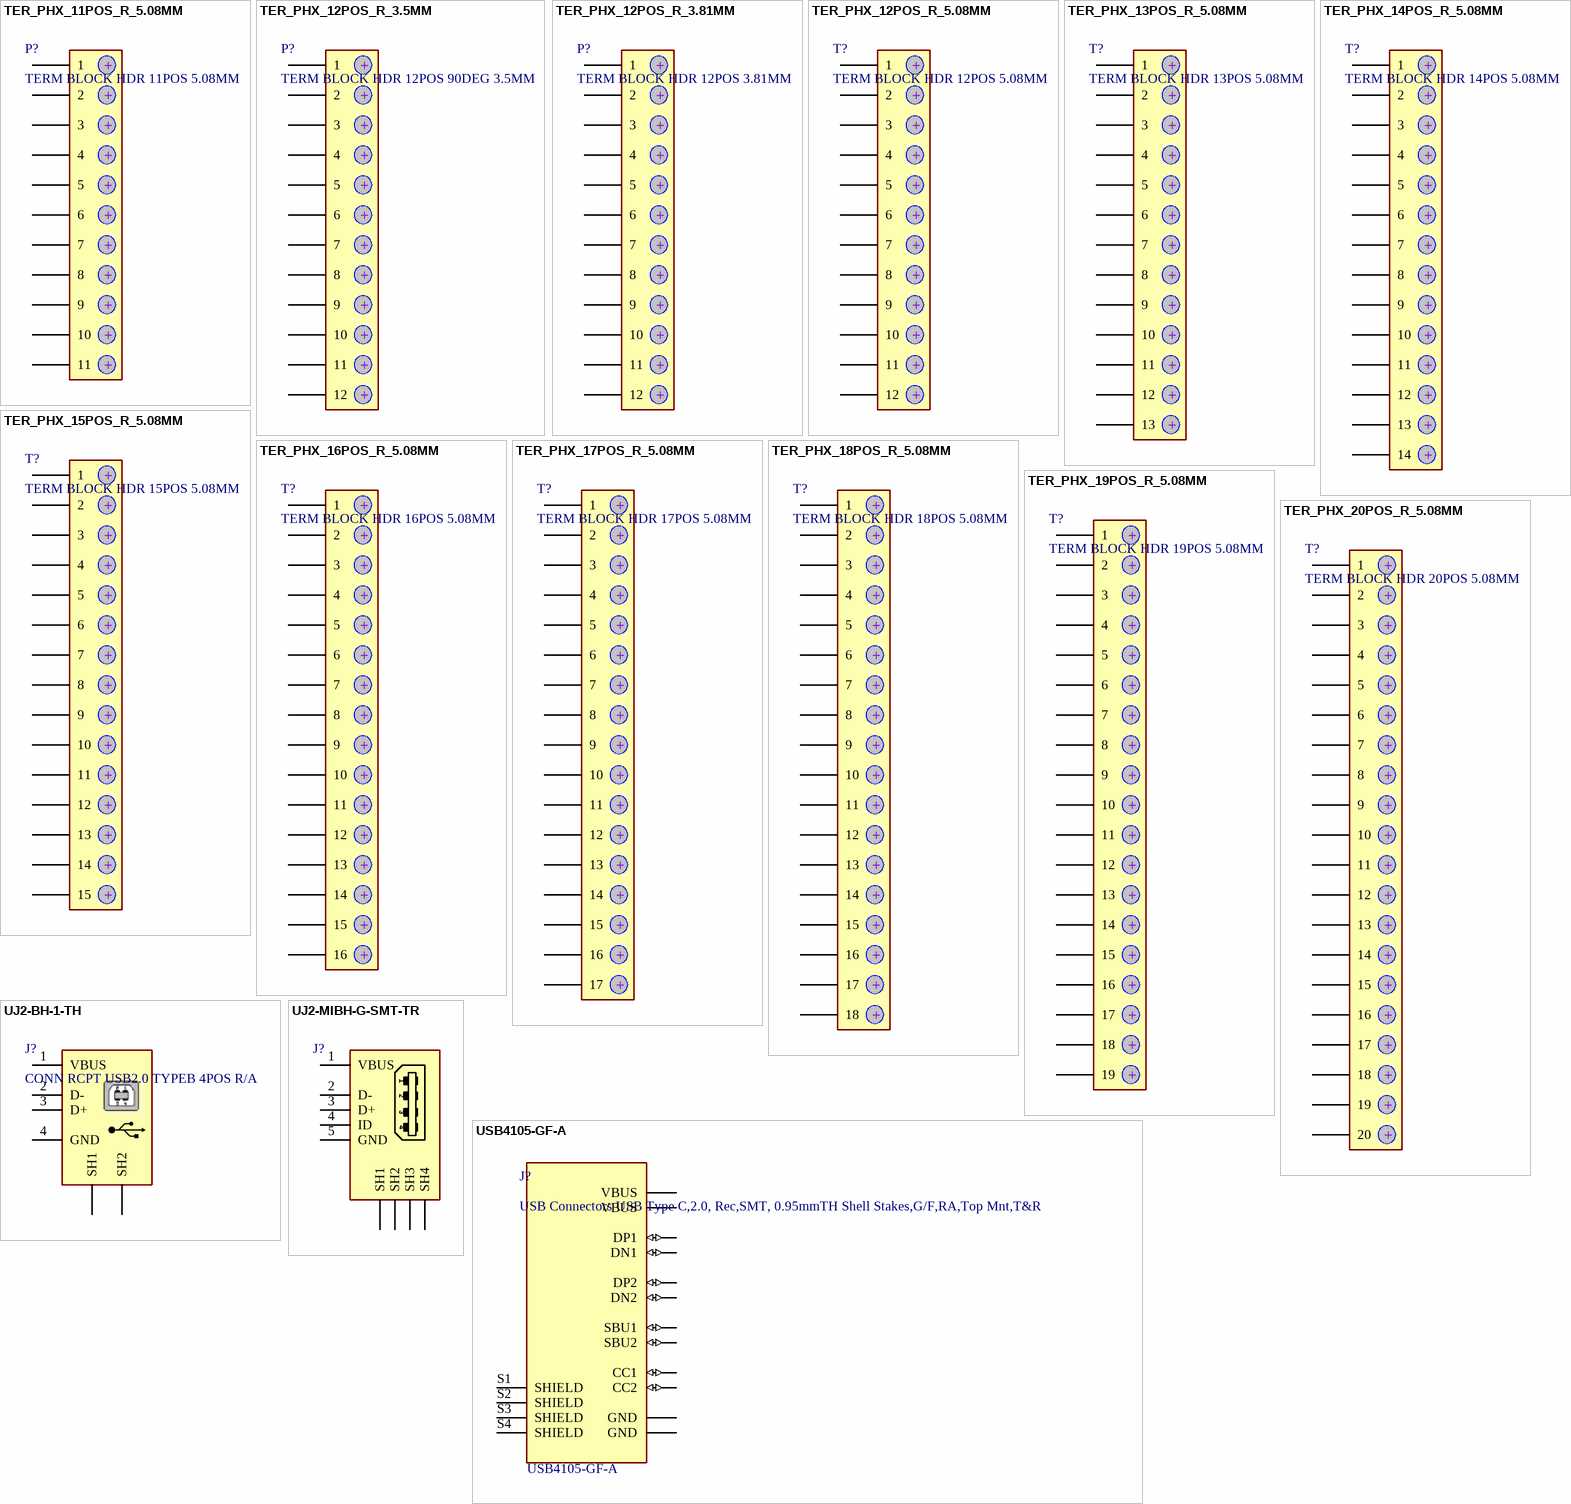
[diagram p4: symbols TER_PHX_11POS_R_5.08MM to USB4105-GF-A]

## TER_PHX_11POS_R_5.08MM
designator P?, comment TERM BLOCK HDR 11POS 5.08MM
Pluggable Terminal Blocks 11 Pos 5.08mm pitch Through Hole Header; Manufacturer: Phoenix Contact; Manufacturer Part Number: 1759101; Max Current Rating: 12A; Voltage Rating: 250V; Number of Poles: 11; Number of Levels: 1; Current: 15A; Voltage: 300V; Voltage Rating (DC): 320V; Approvals: UL,CSA,VDE,EN; Supplier 1: Digi-Key; RoHS: Yes; Category: Terminal Blocks; Stock 1: 61; Pricing 1: 1=3/85000, 10=3/74500, 50=3/50000, 100=3/22000, 250=2/97500, 500=2/83502, 1000=2/69500 (USD); Mount: Through Hole; Weight: 5.361642oz; Color: Green; Contact Plating: Tin; Contact Material: Tin; Housing Color: Green; Housing Material: Polybutylene; Min Operating Temperature: -40°C; Max Operating Temperature: 125°C; Package Quantity: 50; Current Rating: 12A; Number of Rows: 1; Packaging: Bulk; Number of Positions: 11; Termination: Solder; Number of Positions Per Level: 11; Number of Contacts: 11; Orientation: Right Angle; Series: MSTB; Length: 55.88mm; Width: 55.88mm; Pitch: 5.08mm; Depth: 12mm; Flammability Rating: UL94 V-0; RoHS Compliant: Yes; Lead Free: Lead Free; ComponentLink1URL: https://datasheet.ciiva.com/16096/1759101-16096496.pdf?src-supplier=Onlinecomponents.com; ComponentLink1Description: https://datasheet.ciiva.com/16096/1759101-16096496.pdf?src-supplier=Onlinecomponents.com; ComponentLink2URL: https://datasheet.ciiva.com/816/1759101-816439.pdf?src-supplier=Digi-Key; ComponentLink2Description: https://datasheet.ciiva.com/816/1759101-816439.pdf?src-supplier=Digi-Key; ComponentLink3URL: https://datasheet.ciiva.com/26339/743735-da-01-de-grundgehaeuse-mstb-2-5-11-g-5-08-26339039.pdf?src-supplier=Conrad; ComponentLink3Description: https://datasheet.ciiva.com/26339/743735-da-01-de-grundgehaeuse-mstb-2-5-11-g-5-08-26339039.pdf?src-supplier=Conrad; Supplier Part Number 1: 277-1104-ND
footprint TER-Phoenix-R-11
pins: 1, 2, 3, 4, 5, 6, 7, 8, 9, 10, 11
text: +

## TER_PHX_12POS_R_3.5MM
designator P?, comment TERM BLOCK HDR 12POS 90DEG 3.5MM
Pluggable Terminal Blocks 12 Pos 3.5mm pitch T hrough Hole Header; Manufacturer: Phoenix Contact; Manufacturer Part Number: 1844317; Max Current Rating: 8A; Number of Poles: 12; Voltage Rating: 250V; Number of Levels: 1; Voltage: 300V; Gender: Male; Voltage Rating (DC): 640mV; Connector Type: Plug; Approvals: UL,CSA; Supplier: Digi-Key; Supplier Part Number: 277-5902-ND; RoHS: Yes; Category: Terminal Blocks; Stock: 1745; Pricing: 1=6.82000, 10=5.58500, 50=5.22000, 100=4.80240, 250=4.43700, 500=4.22822, 1000=3.96724, 2500=3.76750 (USD); Mounting Technology: Through Hole; Contact Plating: Tin; Color: Green; Weight: 4oz; Housing Color: Green; Material: PBT; Housing Material: Polybutylene; Contact Material: Tin; Packaging: Bulk; Package Quantity: 50; Number of Rows: 1; Current Rating: 8A; Number of Positions Per Level: 12; Termination: Solder; Current: 8A; Number of Positions: 12; Number of Contacts: 12; Orientation: Right Angle; Series: COMBICON MC; Length: 8.4mm; Width: 43.4mm; Height: 11.1mm; Pitch: 3.5mm; Depth: 9.2mm; RoHS Compliant: Yes; Lead Free: Lead Free; Flammability Rating: UL94 V-0; ComponentLink1URL: https://datasheet.ciiva.com/6762/1844317-6762458.pdf?src-supplier=Digi-Key; ComponentLink1Description: https://datasheet.ciiva.com/6762/1844317-6762458.pdf?src-supplier=Digi-Key; ComponentLink2URL: https://datasheet.ciiva.com/26339/788068-da-01-de-grundgehaeuse-1844317-50-st-26339384.pdf?src-supplier=Conrad; ComponentLink2Description: https://datasheet.ciiva.com/26339/788068-da-01-de-grundgehaeuse-1844317-50-st-26339384.pdf?src-supplier=Conrad
footprint TER-Phoenix-3.5mm-R-12
pins: 1, 2, 3, 4, 5, 6, 7, 8, 9, 10, 11, 12
text: +

## TER_PHX_12POS_R_3.81MM
designator P?, comment TERM BLOCK HDR 12POS 3.81MM
Pluggable Terminal Blocks BCH-381H-12 GN 3.81 MM HEADER; Manufacturer: Phoenix Contact; Manufacturer Part Number: 5444369; Current: 8A; Voltage: 300V; Number of Positions: 12; Number of Levels: 1; Pitch: 0.15inch; Supplier: Digi-Key; Supplier Part Number: 5444369-ND; RoHS: Yes; Category: Terminal Blocks; Pricing: 100=6.12350 (USD); Mounting Technology: Through Hole; Pins: 12; Color: Green; Contact Plating: Tin; Packaging: Bulk; Number of Positions Per Level: 12; Termination: Solder; Package Quantity: 100; ComponentLink1URL: https://datasheet.ciiva.com/29689/5444369-29689189.pdf?src-supplier=Digi-Key; ComponentLink1Description: https://datasheet.ciiva.com/29689/5444369-29689189.pdf?src-supplier=Digi-Key
footprint TER-Phoenix-3.81mm-R-12
pins: 1, 2, 3, 4, 5, 6, 7, 8, 9, 10, 11, 12
text: +

## TER_PHX_12POS_R_5.08MM
designator T?, comment TERM BLOCK HDR 12POS 5.08MM
Pluggable Terminal Blocks 12 Pos 5.08mm pitch Through Hole Header; Manufacturer: Phoenix Contact; Manufacturer Part Number: 1759114; Color: Green,Grey; Max Current Rating: 12A; Number of Poles: 12; Voltage Rating: 250V; Number of Levels: 1; Current: 15A; Voltage: 300V; Voltage Rating (DC): 320V; Approvals: UL,CSA,VDE,EN; Supplier 1: Digi-Key; RoHS: Yes; Category: Terminal Blocks; Pricing 1: 1=4/25000, 10=4/13000, 50=3/86000, 100=3/55120, 250=3/28100, 500=3/12662, 1000=2/97220 (USD); Mount: Through Hole; Contact Plating: Tin; Weight: 5.361642oz; Contact Material: Tin; Housing Color: Green; Housing Material: Polybutylene; Package Quantity: 50; Packaging: Bulk; Number of Rows: 1; Current Rating: 12A; Number of Positions Per Level: 12; Termination: Solder; Number of Positions: 12; Number of Contacts: 12; Orientation: Right Angle; Series: MSTB; Length: 40.64mm; Width: 60.96mm; Pitch: 5.08mm; Depth: 12mm; Lead Free: Lead Free; Flammability Rating: UL94 V-0; RoHS Compliant: Yes; ComponentLink1URL: https://datasheet.ciiva.com/16096/1759114-16096498.pdf?src-supplier=Onlinecomponents.com; ComponentLink1Description: https://datasheet.ciiva.com/16096/1759114-16096498.pdf?src-supplier=Onlinecomponents.com; ComponentLink2URL: https://datasheet.ciiva.com/795/1759114-795507.pdf?src-supplier=Digi-Key; ComponentLink2Description: https://datasheet.ciiva.com/795/1759114-795507.pdf?src-supplier=Digi-Key; ComponentLink3URL: https://datasheet.ciiva.com/26339/743749-da-01-de-grundgehaeuse-mstb-2-5-12-g-5-08-26339042.pdf?src-supplier=Conrad; ComponentLink3Description: https://datasheet.ciiva.com/26339/743749-da-01-de-grundgehaeuse-mstb-2-5-12-g-5-08-26339042.pdf?src-supplier=Conrad; Supplier Part Number 1: 277-1105-ND
footprint TER-Phoenix-R-12
pins: 1, 2, 3, 4, 5, 6, 7, 8, 9, 10, 11, 12
text: +